# EAGLE library part S12PIN (library jst_eh)
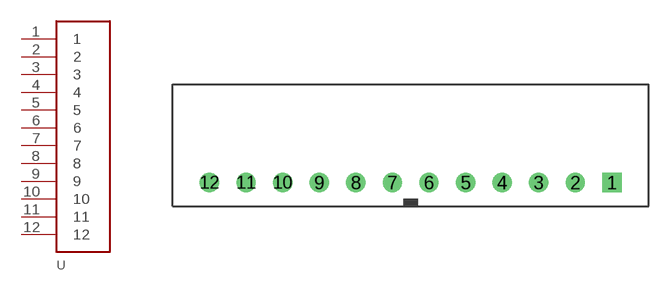
[diagram p16: symbol with the pads of S12B-EH; footprint S12B-EH]

Designator prefix -

## S12PIN  [S12B-EH]
1  1
2  2
3  3
4  4
5  5
6  6
7  7
8  8
9  9
10  10
11  11
12  12

## Footprint S12B-EH (pad centres in mm)
drill 0.813 square: 1 13.75,0
drill 0.813: 2 11.25,0; 3 8.75,0; 4 6.25,0; 5 3.75,0; 6 1.25,0; 7 -1.25,0; 8 -3.75,0; 9 -6.25,0; 10 -8.75,0; 11 -11.25,0; 12 -13.75,0